# EAGLE library part AD74111Y?Z (library ad74111_adg3304)
Low Cost, Low Power Mono Audio Codec Source: http://www.analog.com/UploadedFiles/Data_Sheets/238632441AD74111_0.pdf
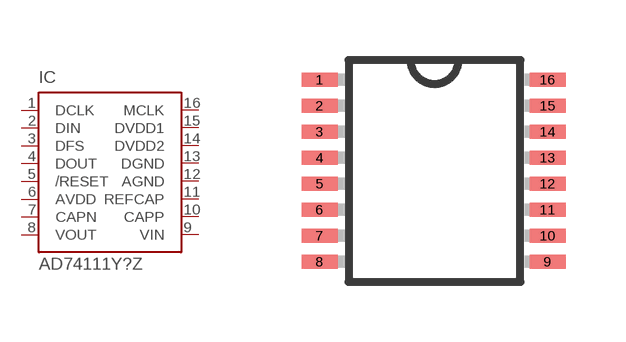
[diagram p1: symbol with the pads of TSSOP16; footprint TSSOP16]

Designator prefix IC

## AD74111YRUZ  [TSSOP16]
1  DCLK
2  DIN  in
3  DFS
4  DOUT  out
5  /RESET  in
6  AVDD  pwr
7  CAPN  pas
8  VOUT  out
9  VIN  in
10  CAPP  pas
11  REFCAP  pas
12  AGND  pwr
13  DGND  pwr
14  DVDD2  pwr
15  DVDD1  pwr
16  MCLK  in

## Footprint TSSOP16 (pad centres in mm)
16-Lead Thin Shrink Small Outline Package [TSSOP]
smd 0.9 x 0.35: 1 -2.875,1.95; 2 -2.875,1.3; 3 -2.875,0.65; 4 -2.875,0; 5 -2.875,-0.65; 6 -2.875,-1.3; 7 -2.875,-1.95; 8 -2.875,-2.6; 9 2.825,-2.6; 10 2.825,-1.95; 11 2.825,-1.3; 12 2.825,-0.65; 13 2.825,0; 14 2.825,0.65; 15 2.825,1.3; 16 2.825,1.95